# EAGLE library part 2X5_1.27MM_FEMALE_PLUG (library SoftDust)
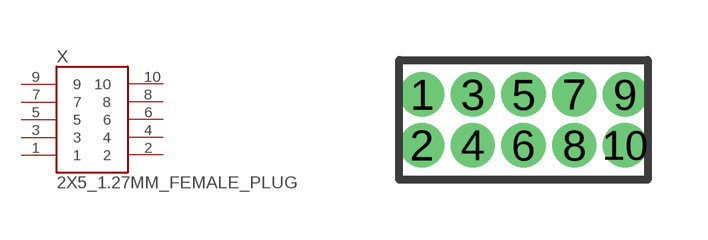
[diagram p4: symbol with the pads of 2X5_1.27MM_FEMALE_PLUG; footprint 2X5_1.27MM_FEMALE_PLUG]

Designator prefix X

## 2X5_1.27MM_FEMALE_PLUG  [2X5_1.27MM_FEMALE_PLUG]
1  1
2  2
3  3
4  4
5  5
6  6
7  7
8  8
9  9
10  10

## Footprint 2X5_1.27MM_FEMALE_PLUG (pad centres in mm)
drill 0.6 pad 0.9: 1 -2.54,0.635; 2 -2.54,-0.635; 3 -1.27,0.635; 4 -1.27,-0.635; 5 0,0.635; 6 0,-0.635; 7 1.27,0.635; 8 1.27,-0.635; 9 2.54,0.635; 10 2.54,-0.635